# Altium schematic symbol library 55_-1LED01.Schlib: 1 symbol
Pins are listed as number, name and electrical type; pins without a type are passive.

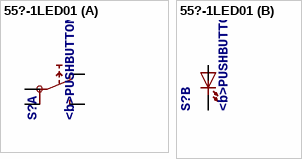
[diagram p0: symbol 55?-1LED01]

## 55?-1LED01
designator S?, comment <b>PUSHBUTTON SERIES 5500 SWITCHES</b> 1 LED<p> / Source: www.e-switch.com .. 5500.pdf
footprint 5501-1LED
part A pins: 1A, 1B, NC, NO
part B pins: + A, - K